# Altium footprint library mylib.PcbLib: 127 footprints (part 6 of 8)
Each footprint in its own frame and in the unit in brackets; x right, y up, seen from the top. Pads: shape width x height; smd on the part's side, far side on the other; paste and mask are expansions set on the pad; w line width, h text height; cw(c..) or ccw(c..) is an arc to the next point about the centre after c.
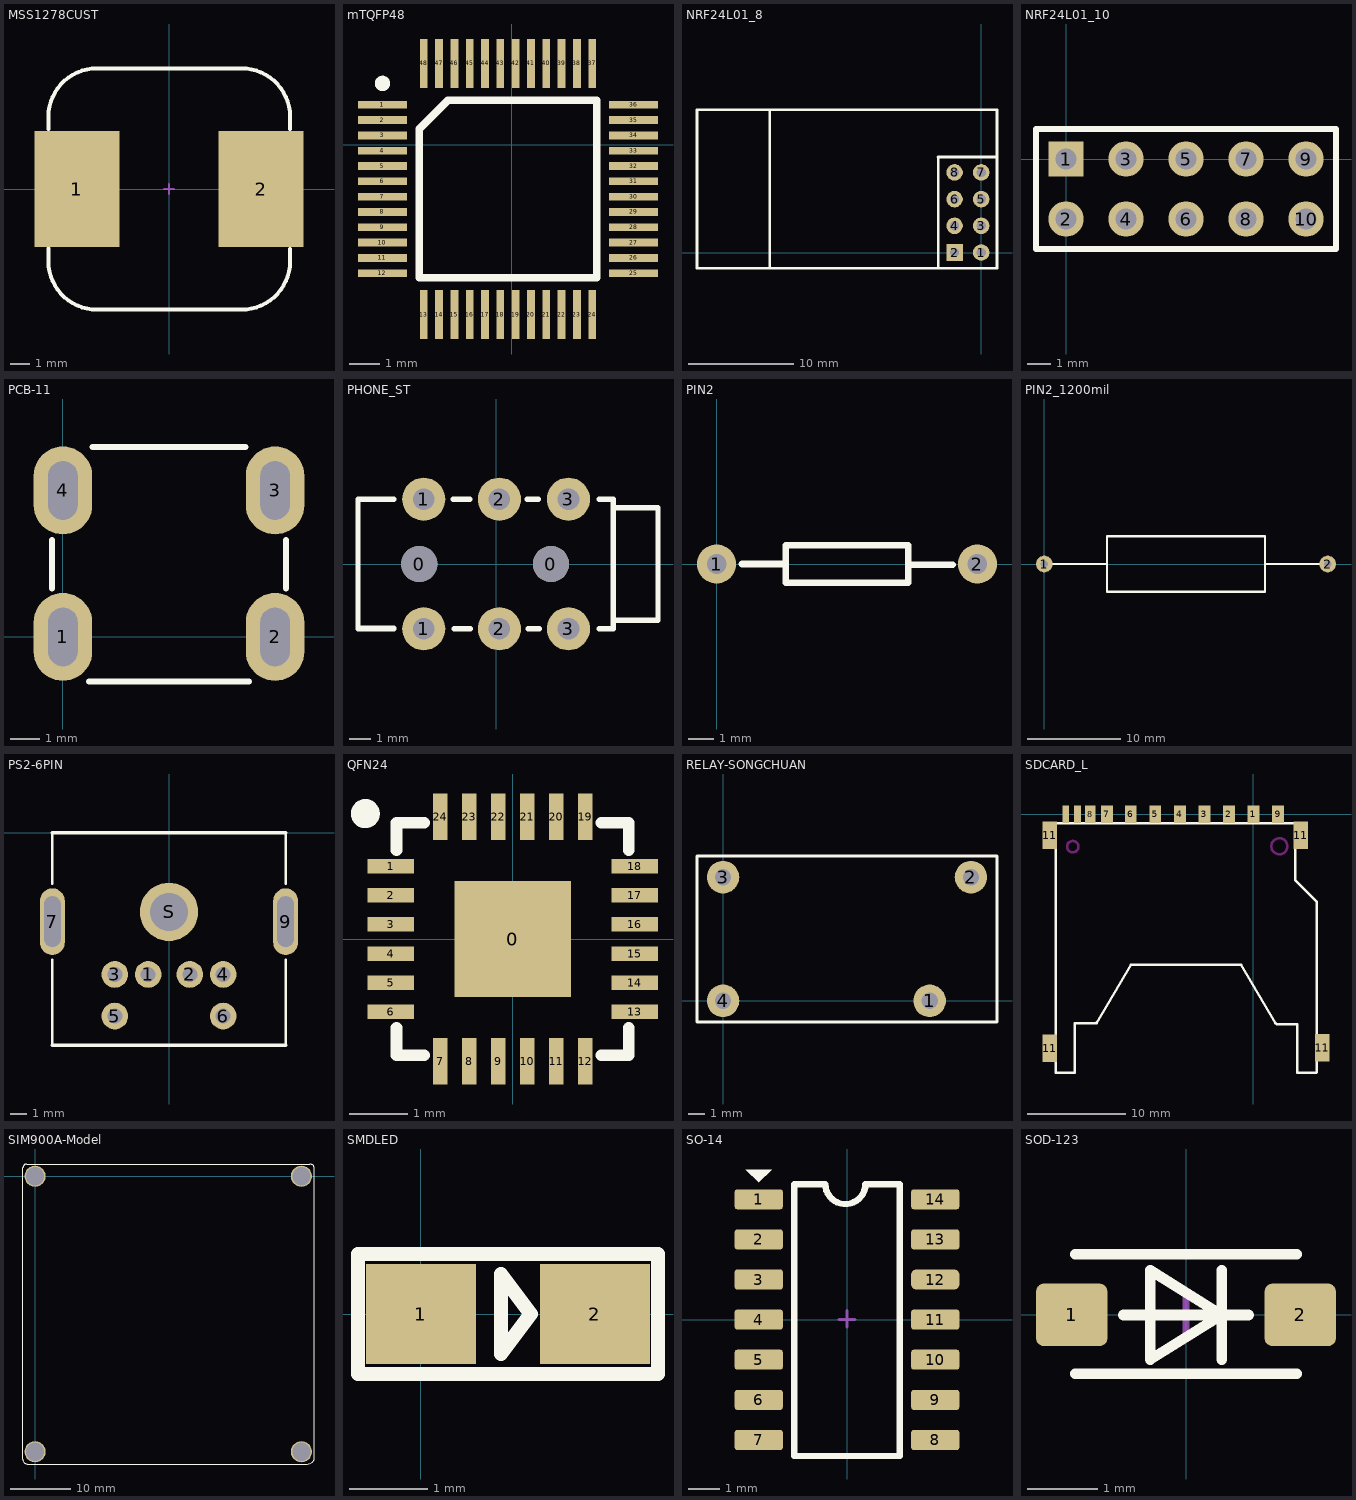
[diagram p5: the footprints below, top view; thin cyan lines are the x and y axes]

## MSS1278CUST [mil]
pads (2):
  rect 172.87x236 smd: 1(-187.87,0) 2(187.87,0)
Top Overlay:
  lines w8: -246,-148 -246,-121 ; -246,-147.64 ccw(c-147.01,-147.01) -146.39,-246 ; -246,122 -246,147.64 cw(c-147.01,147.01) -146.39,246 ; -147,-246 147.39,-246 ccw(c148.01,-147.01) 247,-147.64 ; -145,246 148,246 ; 147.39,246 cw(c148.01,147.01) 247,147.64 247,122 ; 247,-146.64 247,-122
Mechanical 1:
  lines w4: -10,0 10,0 ; 0,-10 0,10
3D body: height 247.55, standoff 0, extent -246.06,-246.13 246.06,246

## mTQFP48 [mm]
pads (48):
  rect 1.6x0.254 smd: 1(-4.223,1.3) 2(-4.223,0.8) 3(-4.223,0.3) 4(-4.223,-0.2) 5(-4.223,-0.7) 6(-4.223,-1.2) 7(-4.223,-1.7) 8(-4.223,-2.2) 9(-4.223,-2.7) 10(-4.223,-3.2) 11(-4.223,-3.7) 12(-4.223,-4.2) 25(3.977,-4.2) 26(3.977,-3.7) 27(3.977,-3.2) 28(3.977,-2.7) 29(3.977,-2.2) 30(3.977,-1.7) 31(3.977,-1.2) 32(3.977,-0.7) 33(3.977,-0.2) 34(3.977,0.3) 35(3.977,0.8) 36(3.977,1.3)
  rect 0.254x1.6 smd: 13(-2.873,-5.55) 14(-2.373,-5.55) 15(-1.873,-5.55) 16(-1.373,-5.55) 17(-0.873,-5.55) 18(-0.373,-5.55) 19(0.127,-5.55) 20(0.627,-5.55) 21(1.127,-5.55) 22(1.627,-5.55) 23(2.127,-5.55) 24(2.627,-5.55) 37(2.627,2.65) 38(2.127,2.65) 39(1.627,2.65) 40(1.127,2.65) 41(0.627,2.65) 42(0.127,2.65) 43(-0.373,2.65) 44(-0.873,2.65) 45(-1.373,2.65) 46(-1.873,2.65) 47(-2.373,2.65) 48(-2.873,2.65)
Top Overlay:
  circle w0.25: c-4.223,2 r0.125
  lines w0.2: -3.023,-4.35 2.777,-4.35 2.777,1.45
  lines w0.254: -3.023,0.508 -2.081,1.45 ; -3.023,0.508 -3.023,-4.35 2.777,-4.35 2.777,1.45 -1.397,1.45 -2.081,1.45 ; -3.023,0.508 -2.081,1.45

## NRF24L01_8 [mil]
pads (8):
  round 62 hole 35: 1(0,0) 3(0,100) 4(-100,100) 5(0,200) 6(-100,200) 7(0,300) 8(-100,300)
  rect 62x62 hole 35: 2(-100,0)
Top Overlay:
  lines w10: -793,-59.06 -793,531.5 ; -161,-59.06 -161,357 -162,358 59.06,358 ; -1065,-59.06 -1065,535 59.06,535 59.06,469.06 59.06,-59.06 -1065,-59.06

## NRF24L01_10 [mm]
pads (10):
  rect 1.5x1.5 hole 0.9: 1(0,0)
  round 1.5 hole 0.9: 2(0,-2.54) 3(2.54,0) 4(2.54,-2.54) 5(5.08,0) 6(5.08,-2.54) 7(7.62,0) 8(7.62,-2.54) 9(10.16,0) 10(10.16,-2.54)
Top Overlay:
  lines w0.254: -1.27,-3.81 11.43,-3.81 11.43,1.27 -1.27,1.27 -1.27,-3.81

## PCB-11 [mm]
pads (4):
  oval 2x3 hole 1 slot 2 at 90 deg: 1(0,0) 2(7.239,0) 3(7.239,5) 4(0,5)
Top Overlay:
  lines w0.203: -0.381,1.651 -0.381,3.302 ; 0.889,-1.524 6.35,-1.524 ; 1.016,6.477 6.223,6.477 ; 7.62,1.651 7.62,3.302

## PHONE_ST [mm]
pads (8):
  round 1.676 hole 1.676: 0(-3.556,0) 0(2.54,0)
  round 2 hole 1: 1(-3.35,-3) 1(-3.35,3) 2(0.15,-3) 2(0.15,3) 3(3.35,-3) 3(3.35,3)
Top Overlay:
  lines w0.254: -6.393,-2.969 -4.742,-2.969 ; -4.742,-3.007 -6.393,-3.007 -6.393,3 -4.742,3 ; -1.986,3 -1.224,3 ; -1.948,-3.007 -1.186,-3.007 ; 1.443,3 1.951,3 ; 1.481,-3.007 1.989,-3.007 ; 4.783,-3.007 5.33,-3.007 ; 4.783,3 5.418,3 5.418,-3.007 ; 5.418,-2.6 7.493,-2.6 7.493,2.6 5.418,2.6

## PIN2 [mil]
pads (2):
  round 60 hole 30: 1(0,0) 2(400,0)
Top Overlay:
  lines w10: 39,0 106,0 ; 295,-1 362,-1 ; 106,-29 106,29 294,29 294,-29 106,-29

## PIN2_1200mil [mm]
pads (2):
  round 1.8 hole 0.8: 1(0,0) 2(30.48,0)
Top Overlay:
  lines w0.254: 0,0 6.74,0 ; 23.74,0 30.48,0 ; 6.74,-3 23.74,-3 23.74,3 6.74,3 6.74,-3

## PS2-6PIN [mm]
pads (9):
  round 1.6 hole 0.9: 1(-1.25,-8.5) 2(1.25,-8.5) 3(-3.25,-8.5) 4(3.25,-8.5) 5(-3.25,-11) 6(3.25,-11)
  oval 1.5x4 hole 1 slot 3.048 at 90 deg: 7(-7,-5.334) 9(7,-5.334)
  round 3.5 hole 2.3: S(0,-4.75)
Top Overlay:
  lines w0.152: -7,-12.75 -7,-7.62 ; -7,-3.048 -7,0 ; 7,-12.75 7,-7.62 ; 7,-3.048 7,0
  lines w0.2: -7,-12.75 7,-12.75 ; -7,0 7,0

## QFN24 [mm]
pads (25):
  rect 2x2 smd: 0(0,0)
  rect 0.8x0.25 smd: 1(-2.101,1.25) 2(-2.101,0.75) 3(-2.101,0.25) 4(-2.101,-0.25) 5(-2.101,-0.75) 6(-2.101,-1.25) 13(2.101,-1.25) 14(2.101,-0.75) 15(2.101,-0.25) 16(2.101,0.25) 17(2.101,0.75) 18(2.101,1.25)
  rect 0.25x0.8 smd: 7(-1.25,-2.101) 8(-0.75,-2.101) 9(-0.25,-2.101) 10(0.25,-2.101) 11(0.75,-2.101) 12(1.25,-2.101) 19(1.25,2.101) 20(0.75,2.101) 21(0.25,2.101) 22(-0.25,2.101) 23(-0.75,2.101) 24(-1.25,2.101)
Top Overlay:
  circle w0.25: c-2.538,2.159 r0.125
  lines w0.2: -2,-1.525 -2,-2 -1.525,-2 ; -2,1.525 -2,2 -1.525,2 ; 1.525,-2 2,-2 2,-1.525 ; 1.525,2 2,2 2,1.525

## RELAY-SONGCHUAN [mm]
pads (4):
  round 2 hole 1: 1(12.7,0) 2(15.24,7.6) 3(0,7.6) 4(0,0)
Top Overlay:
  lines w0.2: -1.6,-1.3 -1.6,0 -1.6,8.9 0,8.9 16.83,8.9 ; -1.595,-1.3 0,-1.3 16.836,-1.3 ; 16.84,-1.296 16.84,0 16.84,8.9

## SDCARD_L [mm]
pads (15):
  rect 1.2x1.8 smd: 1(0,0) 2(-2.489,0) 3(-4.983,-0.009) 4(-7.483,-0.009) 5(-9.983,-0.009) 6(-12.483,-0.009) 7(-14.908,-0.009) 9(2.517,-0.009)
  rect 1.1x1.8 smd: 8(-16.612,0)
  rect 0.7x1.8 smd: 10(-17.908,-0.009) 12(-19.101,0)
  rect 1.5x2.8 smd: 11(-20.726,-23.834) 11(-20.726,-2.143) 11(4.826,-2.143) 11(7.01,-23.784)
Top Overlay:
  lines w0.254: -18.158,-21.3 -18.158,-26.3 -20.131,-26.3 -20.131,-0.914 -20.117,-0.9 4.242,-0.9 4.242,-6.71 6.431,-8.899 6.442,-8.899 6.442,-26.273 6.415,-26.3 4.442,-26.3 4.442,-21.402 2.4,-21.402 2.242,-21.244 ; -18.107,-21.294 -16.065,-21.294 -15.907,-21.136 ; -15.958,-21.294 -12.446,-15.3 ; -12.458,-15.3 -1.258,-15.3 2.242,-21.294
Keep-Out Layer:
  circle w0.254: c-18.39,-3.3 r0.58
  circle w0.254: c2.642,-3.26 r0.82

## SIM900A-Model [mm]
pads (4):
  round 3.5 hole 3: ""(0,-45.72) ""(0,0) ""(44.196,-45.72) ""(44.196,0)
Top Overlay:
  lines w0.203: -2.007,1.448 -2.007,1.397 cw(c-1.372,1.397) -1.372,2.032 ; 43.307,-47.752 45.181,-47.752 ccw(c45.181,-46.451) 46.101,-47.371 ccw(c45.488,-46.758) 46.355,-46.758 46.355,1.27 ccw(c45.593,1.27) 45.593,2.032 44.704,2.032 -1.372,2.032 ; 43.561,-47.752 0.381,-47.752 -1.27,-47.752 cw(c-1.27,-46.99) -2.032,-46.99 -2.032,1.372 cw(c-1.372,1.372) -1.372,2.032

## SMDLED [mm]
pads (2):
  rect 1.4x1.27 smd: 1(0.001,-0.002) 2(2.211,-0.002)
Top Overlay:
  lines w0.178: -0.799,-0.762 -0.799,-0.002 -0.799,0.762 3.012,0.762 3.012,-0.762 -0.799,-0.762 ; 1.016,-0.508 1.397,0 1.016,0.508 1.016,-0.508

## SO-14 [mil]
pads (14):
  rrect25% 60x25 smd: 1(-110,150) 2(-110,100) 3(-110,50) 4(-110,0) 5(-110,-50) 6(-110,-100) 7(-110,-150) 8(110,-150) 9(110,-100) 10(110,-50) 11(110,0) 13(110,100) 14(110,150)
  rrect50% 60x25 smd: 12(110,50)
Top Overlay:
  region: -110,171 -126,187 -94,187
  lines w8: -66,-170 -66,169 -27,169 ccw(c-2,169) 23,169 66,169 66,-170 -66,-170
Mechanical 1:
  lines w4: -10,0 10,0 ; 0,-9 0,11
3D body: height 69, standoff 0, extent -120,-170 120,170

## SOD-123 [mil]
pads (2):
  rrect25% 40x35 smd: 1(-64,0) 2(64,0)
Top Overlay:
  lines w6: -62,-33 62,-33 ; -62,34 62,34 ; -35,0 35,0 ; 20,-25 20,25 ; -20,-25 20,0 -20,25 -20,-25
Mechanical 1:
  lines w4: -10,0 10,0 ; 0,-10 0,10
3D body: height 56.42, standoff -0.67, extent -75.79,-32.93 75.79,34